# Altium footprint library rcl.PCBLIB: 487 footprints (part 18 of 31)
Each footprint in its own frame and in the unit in brackets; x right, y up, seen from the top. Pads: shape width x height; smd on the part's side, far side on the other; paste and mask are expansions set on the pad; w line width, h text height; cw(c..) or ccw(c..) is an arc to the next point about the centre after c.
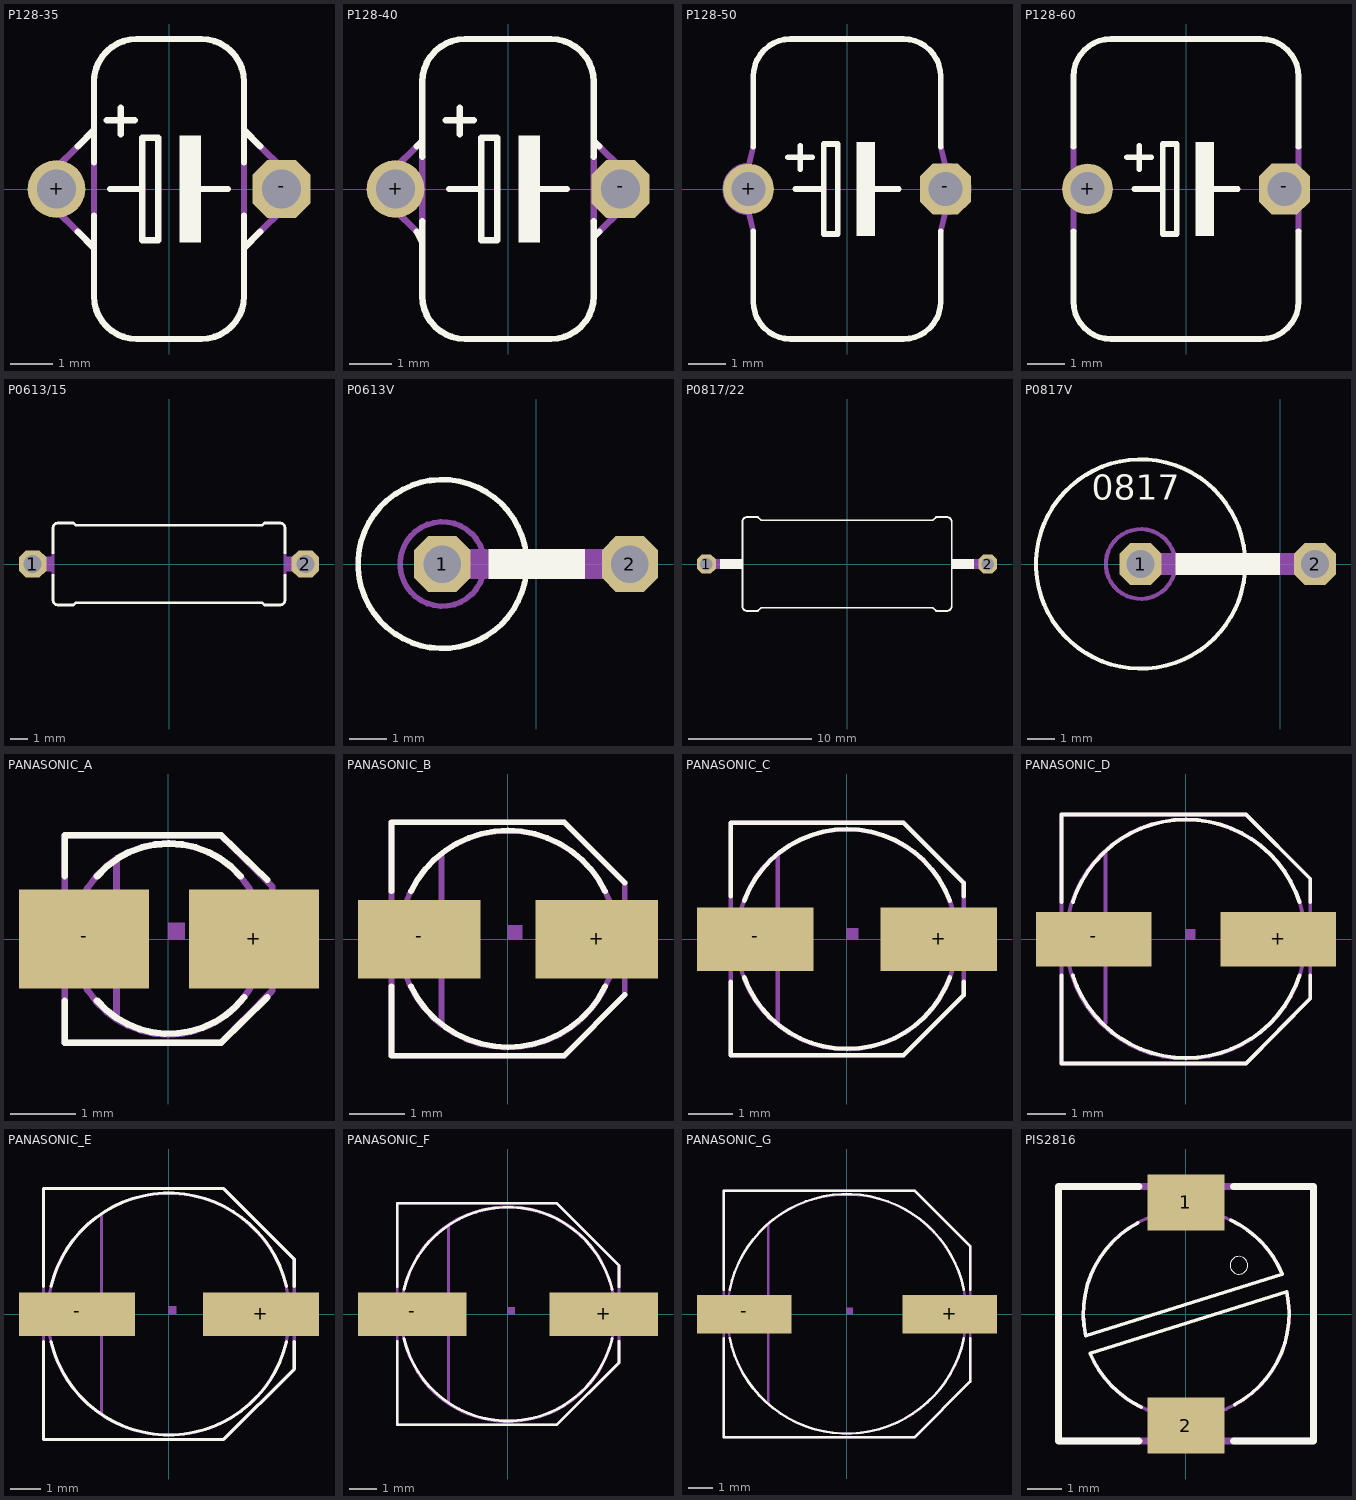
[diagram p17: the footprints below, top view; thin cyan lines are the x and y axes]

## P128-35 [mil]
pads (2):
  round 54 hole 36: +(-105,0)
  oct 54x54 hole 36: -(105,0)
Top Overlay:
  rectangle: 10,-50 30,50
  lines w6: -85,-40 -70,-55 ; -85,40 -70,55 ; -70,-25 -70,-55 ; -70,25 -70,55 ; -70,100 cw(c-30,100) -30,140 30,140 cw(c30,100) 70,100 70,55 ; -70,105 -70,55 ; -58,64 -32,64 ; -55,0 -25,0 ; -45,51 -45,76 ; 25,0 55,0 ; 70,-25 70,-55 ; 70,25 70,55 ; 85,-40 70,-55 ; 85,40 70,55 ; -70,-55 -70,-100 ccw(c-30,-100) -30,-140 30,-140 ccw(c30,-100) 70,-100 70,-55 ; -25,0 -25,-48 -10,-48 -10,48 -25,48 -25,0
Mechanical 16:
  lines w6: -85,-40 -105,-20 cw(c-105,0) -105,20 -85,40 ; -70,-25 -70,25 ; 70,-25 70,25 ; 85,-40 105,-20 ccw(c105,0) 105,20 85,40

## P128-40 [mil]
pads (2):
  round 54 hole 36: +(-105,0)
  oct 54x54 hole 36: -(105,0)
Top Overlay:
  rectangle: 10,-50 30,50
  lines w6: -85,-40 -80,-50 ; -85,40 -80,45 ; -80,-30 -80,-50 ; -80,30 -80,45 ; -58,64 -32,64 ; -55,0 -25,0 ; -45,51 -45,76 ; 25,0 55,0 ; 80,-30 80,-45 ; 80,30 80,45 ; 85,-40 80,-45 ; 85,40 80,45 ; -80,-50 -80,-100 ccw(c-40,-100) -40,-140 40,-140 ccw(c40,-100) 80,-100 80,-45 ; -80,45 -80,100 cw(c-40,100) -40,140 40,140 cw(c40,100) 80,100 80,45 ; -25,0 -25,-48 -10,-48 -10,48 -25,48 -25,0
Mechanical 16:
  lines w6: -85,-40 -105,-20 cw(c-105,0) -105,20 -85,40 ; -80,-30 -80,30 ; 80,-30 80,30 ; 85,-40 105,-20 ccw(c105,0) 105,20 85,40

## P128-50 [mil]
pads (2):
  round 54 hole 36: +(-105,0)
  oct 54x54 hole 36: -(105,0)
Top Overlay:
  rectangle: 10,-50 30,50
  lines w6: -100,-45 -100,-120 ccw(c-60,-120) -60,-160 60,-160 ccw(c60,-120) 100,-120 100,-45 ; -100,45 -100,120 cw(c-60,120) -60,160 60,160 cw(c60,120) 100,120 100,45 ; -63,34 -37,34 ; -55,0 -25,0 ; -50,21 -50,46 ; 25,0 55,0 ; -25,0 -25,-48 -10,-48 -10,48 -25,48 -25,0
Mechanical 16:
  lines w6: -100,-45 -105,-25 cw(c-105,0) -105,25 -100,45 ; 100,-45 105,-25 ccw(c105,0) 105,25 100,45

## P128-60 [mil]
pads (2):
  round 54 hole 36: +(-105,0)
  oct 54x54 hole 36: -(105,0)
Top Overlay:
  rectangle: 10,-50 30,50
  lines w6: -120,-45 -120,-120 ccw(c-80,-120) -80,-160 80,-160 ccw(c80,-120) 120,-120 120,-45 ; -120,45 -120,120 cw(c-80,120) -80,160 80,160 cw(c80,120) 120,120 120,45 ; -63,34 -37,34 ; -55,0 -25,0 ; -50,21 -50,46 ; 25,0 55,0 ; -25,0 -25,-48 -10,-48 -10,48 -25,48 -25,0
Mechanical 16:
  lines w6: -120,-45 -120,45 ; 120,-45 120,45

## P0613/15 [mil]
pads (2):
  oct 60x60 hole 40: 1(-300,0) 2(300,0)
Top Overlay:
  lines w6: -255,-25 -255,-80 ccw(c-245,-80) -245,-90 -210,-90 -205,-85 205,-85 210,-90 245,-90 ccw(c245,-80) 255,-80 255,-25 ; -255,25 -255,80 cw(c-245,80) -245,90 -210,90 -205,85 205,85 210,90 245,90 cw(c245,80) 255,80 255,25
Mechanical 16:
  rectangle: -277,-16 -255,16
  rectangle: 255,-16 277,16
  lines w6: -255,-25 -255,25 ; 255,-25 255,25
  lines w32: -300,0 -275,0 ; 275,0 300,0

## P0613V [mil]
pads (2):
  oct 60x60 hole 40: 1(-100,0) 2(100,0)
Top Overlay:
  circle w6: c-100,0 r90
  rectangle: -51,-16 52,16
Mechanical 16:
  circle w6: c-100,0 r45
  lines w32: -100,0 -55,0 ; 55,0 100,0

## P0817/22 [mil]
pads (2):
  oct 60x60 hole 40: 1(-450,0) 2(450,0)
Top Overlay:
  rectangle: 335,-16 406,16
  rectangle: -406,-16 -335,16
  lines w6: -335,-135 -335,135 cw(c-320,135) -320,150 -285,150 -275,140 275,140 285,150 320,150 cw(c320,135) 335,135 335,-135 cw(c320,-135) 320,-150 285,-150 275,-140 -275,-140 -285,-150 -320,-150 cw(c-320,-135) -335,-135
Mechanical 16:
  lines w32: -450,0 -410,0 ; 410,0 450,0
  text "0817" at 260,-89 h77.5

## P0817V [mil]
pads (2):
  oct 60x60 hole 40: 1(-200,0) 2(50,0)
Top Overlay:
  circle w6: c-200,0 r150
  rectangle: -150,-16 0,16
  text "0817" at -270,80 h62
Mechanical 16:
  circle w6: c-200,0 r50
  lines w32: -200,0 -150,0 ; 0,0 50,0

## PANASONIC_A [mil]
pads (2):
  rect 79x60 smd: +(52,0) -(-51.18,0)
Top Overlay:
  lines w4: -62.99,-37.4 -62.99,-62.99 32,-62.99 60,-35.43 ; -62.99,38 -62.99,63 32,63 60,36 ; -43.31,-37.4 ccw(c0.54,0.3) 46,-35.43 ; -43.31,38 cw(c0.35,0.3) 44,38
Mechanical 16:
  circle w4: c0,0 r58
  rectangle: -70.87,-11.81 -57.09,12
  rectangle: 58,-11.81 71,12
  region: 0,0 10,0 10,10 0,10
  lines w4: -31.5,-47.24 -31.5,48 ; -62.99,-62.99 32,-62.99 63,-31.5 63,32 32,63 -62.99,63 -62.99,-62.99

## PANASONIC_B [mil]
pads (2):
  rect 87x56 smd: +(63,0) -(-62.99,0)
Top Overlay:
  lines w4: -82.68,-33.46 -82.68,-82.68 40,-82.68 83,-39.37 ; -82.68,34 -82.68,83 40,83 83,40 ; -68.9,-33.46 ccw(c0.05,0.02) 69,-33.46 ; -68.9,34 cw(c0.05,0.51) 69,34
Mechanical 16:
  circle w4: c0,0 r77
  rectangle: -90.55,-13.78 -72.83,14
  rectangle: 75,-13.78 91,14
  region: 0,0 10,0 10,10 0,10
  lines w4: -47.24,-59.06 -47.24,60 ; -82.68,-82.68 40,-82.68 83,-39.37 83,40 40,83 -82.68,83 -82.68,-82.68

## PANASONIC_C [mil]
pads (2):
  rect 103x56 smd: +(81,0) -(-80.71,0)
Top Overlay:
  lines w4: -102.36,-37.4 -102.36,-102.36 50,-102.36 103,-49.21 103,-37.4 ; -102.36,38 -102.36,103 50,103 103,50 103,38 ; -90.55,-33.46 ccw(c0.22,0.08) 91,-33.46 ; -90.55,34 cw(c0.22,0.45) 91,34
Mechanical 16:
  circle w4: c0,0 r97
  rectangle: -116.14,-13.78 -94.49,14
  rectangle: 95,-13.78 117,14
  region: 0,0 10,0 10,10 0,10
  lines w4: -61.02,-72.83 -61.02,73 ; -102.36,-102.36 50,-102.36 103,-49.21 103,50 50,103 -102.36,103 -102.36,-102.36

## PANASONIC_D [mil]
pads (2):
  rect 119x56 smd: +(95,0) -(-94.49,0)
Top Overlay:
  lines w4: -127.95,-37.4 -127.95,-127.95 62,-127.95 128,-61.02 128,-37.4 ; -127.95,38 -127.95,128 62,128 128,62 128,38 ; -116.14,-37.4 ccw(c0.43,0.14) 117,-37.4 ; -116.14,38 cw(c0.43,0.46) 117,38
Mechanical 16:
  circle w4: c0,0 r123
  rectangle: -143.7,-13.78 -120.08,14
  rectangle: 121,-13.78 144,14
  region: 0,0 10,0 10,10 0,10
  lines w4: -82.68,-86.61 -82.68,89 ; -127.95,-127.95 62,-127.95 128,-61.02 128,62 62,128 -127.95,128 -127.95,-127.95

## PANASONIC_E [mil]
pads (2):
  rect 150x56 smd: +(119,0) -(-118.11,0)
Top Overlay:
  lines w4: -161.42,-35.43 -161.42,-161.42 71,-161.42 162,-70.87 162,-35.43 ; -161.42,36 -161.42,162 71,162 162,71 162,36 ; -151.57,-35.43 ccw(c0.21,0.05) 152,-35.43 ; -151.57,36 cw(c0.21,0.52) 152,36
Mechanical 16:
  circle w4: c0,0 r156
  rectangle: -177.17,-13.78 -149.61,14
  rectangle: 150,-13.78 178,14
  region: 0,0 10,0 10,10 0,10
  lines w4: -86.61,-127.95 -86.61,128 ; -161.42,-161.42 71,-161.42 162,-70.87 162,71 71,162 -161.42,162 -161.42,-161.42

## PANASONIC_F [mil]
pads (2):
  rect 158x63 smd: +(140,0) -(-139.76,0)
Top Overlay:
  lines w4: -161.42,-39.37 -161.42,-161.42 71,-161.42 162,-70.87 162,-39.37 ; -161.42,40 -161.42,162 71,162 162,71 162,40 ; -151.57,-35.43 ccw(c0.21,0.05) 152,-35.43 ; -151.57,36 cw(c0.21,0.52) 152,36
Mechanical 16:
  circle w1: c0,0 r158
  circle w4: c0,0 r156
  rectangle: -190.94,-17.72 -153.54,18
  rectangle: 154,-17.72 191,18
  region: 0,0 10,0 10,10 0,10
  lines w4: -86.61,-127.95 -86.61,128 ; -161.42,-161.42 71,-161.42 162,-70.87 162,71 71,162 -161.42,162 -161.42,-161.42

## PANASONIC_G [mil]
pads (2):
  rect 154x63 smd: +(168,0) -(-167.32,0)
Top Overlay:
  lines w4: -200.79,-39.37 -200.79,-200.79 111,-200.79 201,-110.24 201,-39.37 ; -200.79,40 -200.79,201 111,201 201,111 201,40 ; -190.94,-39.37 ccw(c0.03,0.01) 191,-39.37 ; -190.94,40 cw(c0.03,0.62) 191,40
Mechanical 16:
  circle w4: c0,0 r195
  rectangle: -230.31,-17.72 -192.91,18
  rectangle: 193,-17.72 231,18
  region: 0,0 10,0 10,10 0,10
  lines w4: -127.95,-143.7 -127.95,146 ; -200.79,-200.79 111,-200.79 201,-110.24 201,111 111,201 -200.79,201 -200.79,-200.79

## PIS2816 [mil]
pads (2):
  rect 87x63 smd: 1(0,126) 2(0,-125.98)
Top Overlay:
  circle w0: c60,55 r10
  lines w4: -54.13,103 ccw(c0.42,0.28) -113.19,-24.61 109,45 ccw(c0.8,0.19) 51,106 ; -50.2,-105.32 cw(c0,0.6) -108.27,-44.29 114,25 cw(c0.58,0.19) 55,-102.36
  lines w8: -53.15,-143.7 -143.7,-143.7 -143.7,144 -53.15,144 ; 54,-143.7 144,-143.7 144,144 54,144
Mechanical 16:
  lines w4: -113.19,-24.61 cw(c1,0.32) 109,45 ; -108.27,-44.29 ccw(c-0.21,0.23) 114,25
  lines w8: -143.7,-143.7 144,-143.7 ; -143.7,144 144,144